# Altium integrated library 4N35.IntLib: 1 symbol
Pins are listed as number, name and electrical type; pins without a type are passive.

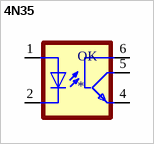
[diagram p0: symbol 4N35]

## 4N35
designator OK
Optoisolator Transistor with Base Output 5000Vrms 1 Channel 6-DIP; MF: Vishay; MP: 4N35; Package: DIP-6 Texas Instruments; Price: None; SnapEDA_Link: https://www.snapeda.com/parts/4N35/Vishay%20Semiconductor%20Opto%20Division/view-part/579099/?ref=snap; Availability: Unavailable; Value: *
footprint DIL06
pins: 1 A, 2 C, 4 EMI, 5 COL, 6 BAS